# EAGLE library part SSOT6_FET (library user_tr_fet_igbt)
sot23-6も含まれる
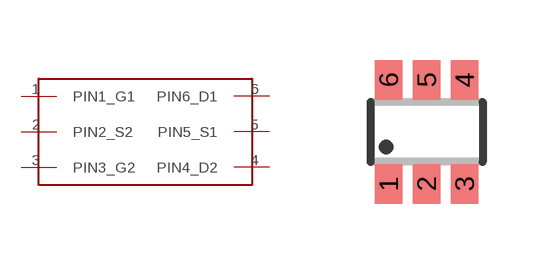
[diagram p0: symbol with the pads of SSOT6; footprint SSOT6]

Designator prefix -

## SSOT6_FET  [SSOT6]
1  PIN1_G1
2  PIN2_S2
3  PIN3_G2
4  PIN4_D2
5  PIN5_S1
6  PIN6_D1

## Footprint SSOT6 (pad centres in mm)
SuperSOT-6 Source: Fairchild Semiconductor International ssot6_dim.pdf September 1998, Rev. A
smd 0.69 x 0.99: 1 -0.95,-1.3; 2 0,-1.3; 3 0.95,-1.3; 4 0.95,1.3; 5 0,1.3; 6 -0.95,1.3